# Altium footprint library ESP32-Sense Kit Motherboard.PcbLib: 23 footprints (part 2 of 2)
Each footprint in its own frame and in the unit in brackets; x right, y up, seen from the top. Pads: shape width x height; smd on the part's side, far side on the other; paste and mask are expansions set on the pad; w line width, h text height; cw(c..) or ccw(c..) is an arc to the next point about the centre after c.
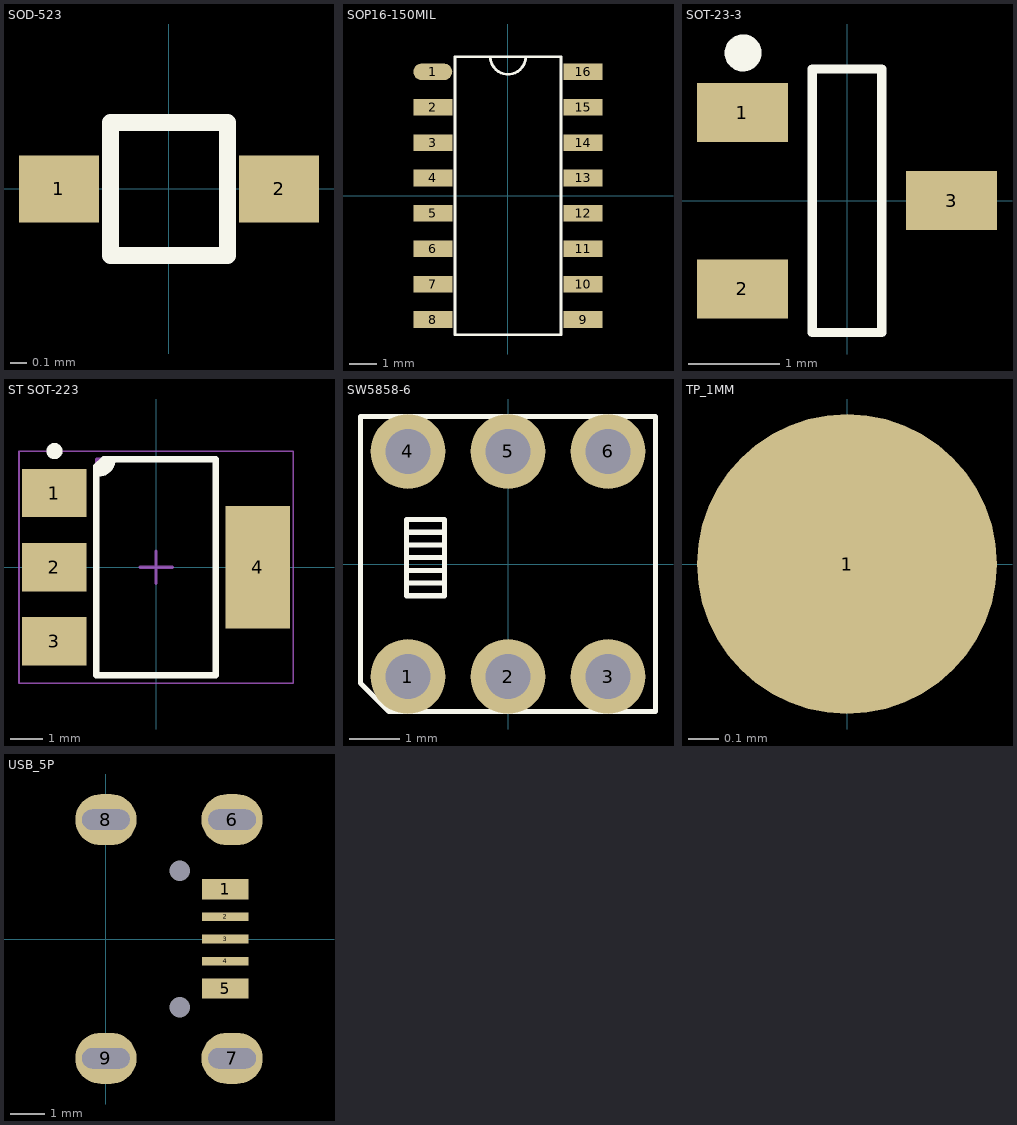
[diagram p1: the footprints below, top view; thin cyan lines are the x and y axes]

## SOD-523 [mm]
pads (2):
  rect 0.48x0.4 smd: 1(-0.66,0) 2(0.66,0)
Top Overlay:
  lines w0.102: -0.35,-0.4 -0.35,0.4 0.35,0.4 0.35,-0.4 -0.35,-0.4
3D body "SC-79.stp": height 0.7, standoff 0, extent -0.858,-0.446 0.842,0.454

## SOP16-150MIL [mm]
pads (16):
  rrect100% 1.4x0.6 smd: 1(-2.7,4.445)
  rect 1.4x0.6 smd: 2(-2.7,3.175) 3(-2.7,1.905) 4(-2.7,0.635) 5(-2.7,-0.635) 6(-2.7,-1.905) 7(-2.7,-3.175) 8(-2.7,-4.445) 9(2.7,-4.445) 10(2.7,-3.175) 11(2.7,-1.905) 12(2.7,-0.635) 13(2.7,0.635) 14(2.7,1.905) 15(2.7,3.175) 16(2.7,4.445)
Top Overlay:
  lines w0.102: -0.635,4.99 ccw(c0,4.99) 0.635,4.99 ; -1.9,-4.99 -1.9,4.99 1.9,4.99 1.9,-4.99 -1.9,-4.99
3D body "CH455G - Display Driver ESP32 Sense Kit v1.step": height 1.48, standoff 0, extent -3.014,-4.935 3.021,4.965

## SOT-23-3 [mm]
pads (3):
  rect 1x0.65 smd: 1(-1.15,0.97) 2(-1.15,-0.97) 3(1.15,0)
Top Overlay:
  circle w0.203: c-1.143,1.626 r0.102
  lines w0.102: -0.381,-1.45 -0.381,1.45 0.381,1.45 0.381,-1.45 -0.381,-1.45
3D body "TO-236AB.stp": height 1.1, standoff 0, extent -1.279,-1.493 1.321,1.507

## ST SOT-223 [mm] "SOT223, 4-Leads, Body 6.50x7.00mm (avg), Pitch 2.30mm, IPC Medium Density"
height 1.8
pads (4):
  rect 2x1.5 smd: 1(-3.15,2.3) 2(-3.15,0) 3(-3.15,-2.3)
  rect 2x3.8 smd: 4(3.15,0)
Top Overlay:
  circle w0.25: c-3.15,3.6 r0.125
  region: -1.65,3.275 -1.35,3.35 -1.35,3.2 -1.65,2.9 -1.85,2.9
  lines w0.2: -1.85,2.9 -1.8,2.9 ccw(c-1.8,3.35) -1.35,3.35 ; -1.85,-3.35 -1.85,3.125 -1.625,3.35 1.85,3.35 1.85,-3.35 -1.85,-3.35
Mechanical 13:
  lines w0.1: -1.85,-3.35 1.85,-3.35 1.85,3.35 -1.85,3.35 -1.85,-3.35
Mechanical 15:
  lines w0.05: -4.25,-3.6 4.25,-3.6 4.25,3.6 -4.25,3.6 -4.25,-3.6
  lines w0.1: -0.5,0 0.5,0 ; 0,-0.5 0,0.5
3D body "SOT-223.STEP": height 1.8, standoff 0, extent -3.516,-3.25 3.5,3.25

## SW5858-6 [mm]
pads (6):
  round 1.5 hole 0.9: 1(-2,-2.25) 2(0,-2.25) 3(2,-2.25) 4(-2,2.25) 5(0,2.25) 6(2,2.25)
Top Overlay:
  lines w0.102: -2.032,-0.381 -1.27,-0.381 ; -2.032,-0.127 -1.27,-0.127 ; -2.032,0.127 -1.27,0.127 ; -2.032,0.381 -1.27,0.381 ; -2.032,0.635 -1.27,0.635 ; -2.95,-2.384 -2.384,-2.95 2.95,-2.95 2.95,2.95 -2.95,2.95 -2.95,-2.384 ; -2.032,-0.635 -1.27,-0.635 -1.27,0.889 -2.032,0.889 -2.032,-0.635
3D body "ESP32-Sense-Pushbutton v2.step": height 7.8, standoff -2.83, extent -2.69,-3.057 2.676,3.088

## TP_1MM [mm]
pads (1):
  round 1 smd paste-0.5: 1(0,0)

## USB_5P [mm]
pads (11):
  rect 1.35x0.6 smd: 1(3.5,1.464) 5(3.5,-1.452)
  rect 1.35x0.25 smd: 2(3.5,0.65) 3(3.5,0) 4(3.5,-0.65)
  oval 1.8x1.5 hole 0.6 slot 1.4 at 0 deg: 6(3.7,3.5) 7(3.7,-3.5) 8(0,3.5) 9(0,-3.5)
  round 0 hole 0.6: 10(2.16,2) 11(2.16,-2)
3D body "micro_usb_connector.stp": height 2.73, standoff -0.67, extent -2.024,-3.886 3.819,3.886